# Altium footprint library Mechanical.PcbLib: 5 footprints
Each footprint in its own frame and in the unit in brackets; x right, y up, seen from the top. Pads: shape width x height; smd on the part's side, far side on the other; paste and mask are expansions set on the pad; w line width, h text height; cw(c..) or ccw(c..) is an arc to the next point about the centre after c.
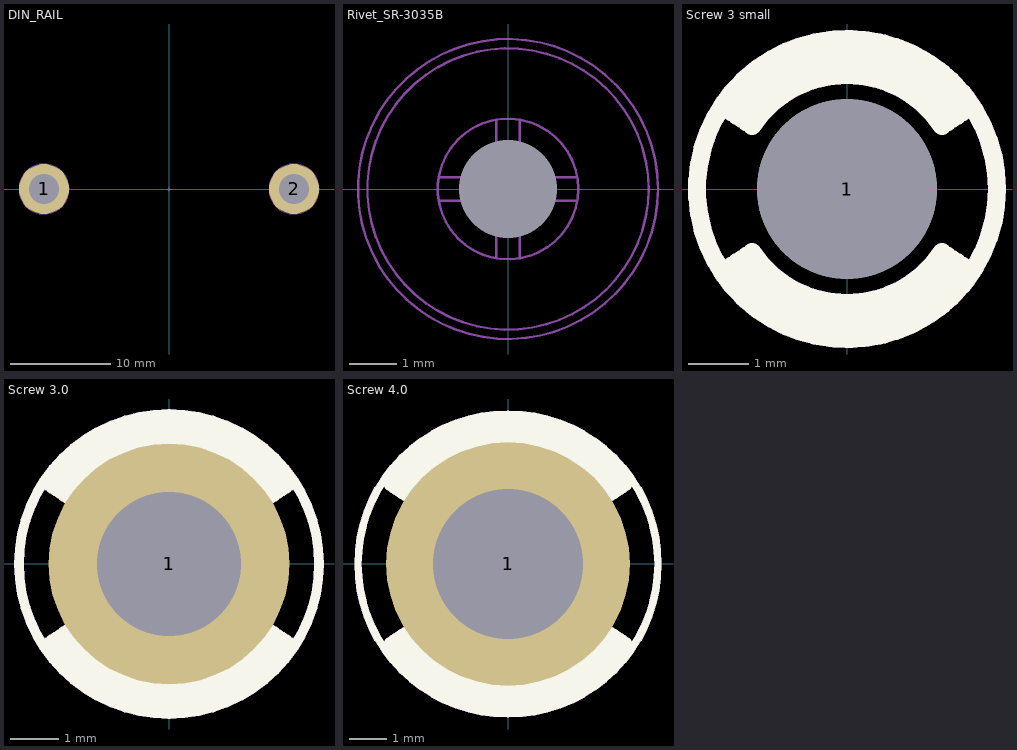
[diagram p0: the footprints below, top view; thin cyan lines are the x and y axes]

## DIN_RAIL [mm]
pads (2):
  round 5 hole 3 mask+0.1: 1(-12.5,0) 2(12.5,0)
Top HCB:
  circle w0.05: c12.5,0 r2.5
  circle w0.05: c-12.5,0 r2.5
  lines w0.05: -0.25,0 0.25,0 ; 0,-0.25 0,0.25
3D body "PCB_C45_DIN_Rail_35mm_Holder.stp": height -0.5, standoff -19.8, extent -21.2,-5 21.4,5

## Rivet_SR-3035B [mm]
height 6.7
pads (1):
  round 0 hole 2.1: 1(0,0)
Top HCB:
  circle w0.05: c0,0 r3.2
  circle w0.05: c0,0 r3
  circle w0.05: c0,0 r1.5
  lines w0.05: -1.475,-0.254 -0.275,-0.252 -0.252,-0.275 -0.254,-1.475 ; -1.475,0.254 -0.275,0.252 -0.252,0.275 -0.254,1.475 ; -0.967,-0.253 ccw(c0,0) -0.253,-0.967 ; -0.967,0.253 cw(c0,0) -0.253,0.967 ; 0.253,-0.967 ccw(c0,0) 0.967,-0.253 ; 0.253,0.967 cw(c0,0) 0.967,0.253 ; 0.254,-1.475 0.252,-0.275 0.275,-0.252 1.475,-0.254 ; 0.254,1.475 0.252,0.275 0.275,0.252 1.475,0.254

## Screw 3 small [mm] "Hole 3mm, outline 5mm"
height 10
pads (1):
  round 3 hole 3 mask+0.1: 1(0,0)
Top Overlay:
  circle w0.3: c0,0 r2.5
  lines w0.3: -1.997,-1.331 ccw(c0,0) 1.997,-1.331 ; -1.997,1.331 cw(c0,0) 1.997,1.331 ; -1.831,-1.22 ccw(c0,0) 1.831,-1.22 ; -1.831,1.22 cw(c0,0) 1.831,1.22 ; -1.747,-1.165 ccw(c0,0) 1.747,-1.165 ; -1.747,1.165 cw(c0,0) 1.747,1.165 ; -1.664,-1.109 ccw(c0,0) 1.664,-1.109 ; -1.664,1.109 cw(c0,0) 1.664,1.109 ; -1.581,-1.054 ccw(c0,0) 1.581,-1.054 ; -1.581,1.054 cw(c0,0) 1.581,1.054 ; -2.08,-1.387 ccw(c0,0) 2.08,-1.387 cw(c0,0) -2.08,-1.387 ; -2.08,1.387 cw(c0,0) 2.08,1.387 ccw(c0,0) -2.08,1.387 ; -1.914,-1.276 ccw(c0,0) 1.914,-1.276 cw(c0,0) -1.914,-1.276 ; -1.914,1.276 cw(c0,0) 1.914,1.276 ccw(c0,0) -1.914,1.276
Top HCB:
  circle w0.3: c0,0 r2.5
  lines w0.3: -1.997,-1.331 ccw(c0,0) 1.997,-1.331 ; -1.997,1.331 cw(c0,0) 1.997,1.331 ; -1.831,-1.22 ccw(c0,0) 1.831,-1.22 ; -1.831,1.22 cw(c0,0) 1.831,1.22 ; -1.747,-1.165 ccw(c0,0) 1.747,-1.165 ; -1.747,1.165 cw(c0,0) 1.747,1.165 ; -1.664,-1.109 ccw(c0,0) 1.664,-1.109 ; -1.664,1.109 cw(c0,0) 1.664,1.109 ; -1.581,-1.054 ccw(c0,0) 1.581,-1.054 ; -1.581,1.054 cw(c0,0) 1.581,1.054 ; -2.08,-1.387 ccw(c0,0) 2.08,-1.387 cw(c0,0) -2.08,-1.387 ; -2.08,1.387 cw(c0,0) 2.08,1.387 ccw(c0,0) -2.08,1.387 ; -1.914,-1.276 ccw(c0,0) 1.914,-1.276 cw(c0,0) -1.914,-1.276 ; -1.914,1.276 cw(c0,0) 1.914,1.276 ccw(c0,0) -1.914,1.276
3D body "Screw-3mmX10mm.step": height 1.73, standoff -10, extent -2.5,-2.5 2.5,2.5

## Screw 3.0 [mm] "Hole 3.0mm"
height 10
pads (1):
  round 5 hole 3 mask+0.1: 1(0,0)
Top Overlay:
  circle w0.2: c0,0 r3.115
  lines w0.3: -2.496,-1.664 ccw(c0,0) 2.496,-1.664 ; -2.496,1.664 cw(c0,0) 2.496,1.664 ; -2.33,-1.553 ccw(c0,0) 2.33,-1.553 ; -2.33,1.553 cw(c0,0) 2.33,1.553 ; -2.247,-1.498 ccw(c0,0) 2.247,-1.498 ; -2.247,1.498 cw(c0,0) 2.247,1.498 ; -2.163,-1.442 ccw(c0,0) 2.163,-1.442 ; -2.163,1.442 cw(c0,0) 2.163,1.442 ; -1.997,-1.331 ccw(c0,0) 1.997,-1.331 ; -1.997,1.331 cw(c0,0) 1.997,1.331 ; -1.831,-1.22 ccw(c0,0) 1.831,-1.22 ; -1.831,1.22 cw(c0,0) 1.831,1.22 ; -1.747,-1.165 ccw(c0,0) 1.747,-1.165 ; -1.747,1.165 cw(c0,0) 1.747,1.165 ; -1.664,-1.109 ccw(c0,0) 1.664,-1.109 ; -1.664,1.109 cw(c0,0) 1.664,1.109 ; -1.581,-1.054 ccw(c0,0) 1.581,-1.054 ; -1.581,1.054 cw(c0,0) 1.581,1.054 ; -2.413,-1.609 ccw(c0,0) 2.413,-1.609 cw(c0,0) -2.413,-1.609 ; -2.413,1.609 cw(c0,0) 2.413,1.609 ccw(c0,0) -2.413,1.609 ; -2.08,-1.387 ccw(c0,0) 2.08,-1.387 cw(c0,0) -2.08,-1.387 ; -2.08,1.387 cw(c0,0) 2.08,1.387 ccw(c0,0) -2.08,1.387 ; -1.914,-1.276 ccw(c0,0) 1.914,-1.276 cw(c0,0) -1.914,-1.276 ; -1.914,1.276 cw(c0,0) 1.914,1.276 ccw(c0,0) -1.914,1.276
Top HCB:
  circle w0.2: c0,0 r3.115
  lines w0.3: -2.496,-1.664 ccw(c0,0) 2.496,-1.664 ; -2.496,1.664 cw(c0,0) 2.496,1.664 ; -2.33,-1.553 ccw(c0,0) 2.33,-1.553 ; -2.33,1.553 cw(c0,0) 2.33,1.553 ; -2.247,-1.498 ccw(c0,0) 2.247,-1.498 ; -2.247,1.498 cw(c0,0) 2.247,1.498 ; -2.163,-1.442 ccw(c0,0) 2.163,-1.442 ; -2.163,1.442 cw(c0,0) 2.163,1.442 ; -1.997,-1.331 ccw(c0,0) 1.997,-1.331 ; -1.997,1.331 cw(c0,0) 1.997,1.331 ; -1.831,-1.22 ccw(c0,0) 1.831,-1.22 ; -1.831,1.22 cw(c0,0) 1.831,1.22 ; -1.747,-1.165 ccw(c0,0) 1.747,-1.165 ; -1.747,1.165 cw(c0,0) 1.747,1.165 ; -1.664,-1.109 ccw(c0,0) 1.664,-1.109 ; -1.664,1.109 cw(c0,0) 1.664,1.109 ; -1.581,-1.054 ccw(c0,0) 1.581,-1.054 ; -1.581,1.054 cw(c0,0) 1.581,1.054 ; -2.413,-1.609 ccw(c0,0) 2.413,-1.609 cw(c0,0) -2.413,-1.609 ; -2.413,1.609 cw(c0,0) 2.413,1.609 ccw(c0,0) -2.413,1.609 ; -2.08,-1.387 ccw(c0,0) 2.08,-1.387 cw(c0,0) -2.08,-1.387 ; -2.08,1.387 cw(c0,0) 2.08,1.387 ccw(c0,0) -2.08,1.387 ; -1.914,-1.276 ccw(c0,0) 1.914,-1.276 cw(c0,0) -1.914,-1.276 ; -1.914,1.276 cw(c0,0) 1.914,1.276 ccw(c0,0) -1.914,1.276
3D body "Screw-3mmX10mm.step": height 1.73, standoff -10, extent -2.5,-2.5 2.5,2.5

## Screw 4.0 [mm] "Hole 4.0mm"
height 10
pads (1):
  round 6.5 hole 4 mask+0.1: 1(0,0)
Top Overlay:
  circle w0.2: c0,0 r4
  lines w0.3: -3.162,-2.108 ccw(c0,0) 3.162,-2.108 ; -3.162,2.108 cw(c0,0) 3.162,2.108 ; -3.137,-2.091 ccw(c0,0) 3.137,-2.091 ; -3.137,2.091 cw(c0,0) 3.137,2.091 ; -3.054,-2.036 ccw(c0,0) 3.053,-2.036 ; -3.054,2.036 cw(c0,0) 3.054,2.036 ; -2.971,-1.98 ccw(c0,0) 2.97,-1.98 ; -2.97,1.98 cw(c0,0) 2.97,1.98 ; -2.887,-1.925 ccw(c0,0) 2.887,-1.925 ; -2.887,1.925 cw(c0,0) 2.887,1.925 ; -2.804,-1.869 ccw(c0,0) 2.804,-1.869 ; -2.804,1.869 cw(c0,0) 2.804,1.869 ; -2.721,-1.814 ccw(c0,0) 2.721,-1.814 ; -2.721,1.814 cw(c0,0) 2.721,1.814 ; -2.638,-1.759 ccw(c0,0) 2.637,-1.759 ; -2.638,1.758 cw(c0,0) 2.638,1.758 ; -2.555,-1.703 ccw(c0,0) 2.554,-1.703 ; -2.554,1.703 cw(c0,0) 2.554,1.703 ; -2.471,-1.648 ccw(c0,0) 2.471,-1.648 ; -2.471,1.647 cw(c0,0) 2.471,1.647 ; -2.305,-1.537 ccw(c0,0) 2.305,-1.537 ; -2.305,1.537 cw(c0,0) 2.305,1.537 ; -2.222,-1.481 ccw(c0,0) 2.221,-1.481 ; -2.222,1.481 cw(c0,0) 2.222,1.481 ; -2.139,-1.426 ccw(c0,0) 2.138,-1.426 ; -2.138,1.426 cw(c0,0) 2.138,1.426 ; -2.055,-1.37 ccw(c0,0) 2.055,-1.37 ; -2.055,1.37 cw(c0,0) 2.055,1.37 ; -2.388,-1.592 ccw(c0,0) 2.388,-1.592 cw(c0,0) -2.388,-1.592 ; -2.388,1.592 cw(c0,0) 2.388,1.592 ccw(c0,0) -2.388,1.592
Top HCB:
  circle w0.2: c0,0 r4
  lines w0.3: -3.162,-2.108 ccw(c0,0) 3.162,-2.108 ; -3.162,2.108 cw(c0,0) 3.162,2.108 ; -3.137,-2.091 ccw(c0,0) 3.137,-2.091 ; -3.137,2.091 cw(c0,0) 3.137,2.091 ; -3.054,-2.036 ccw(c0,0) 3.053,-2.036 ; -3.054,2.036 cw(c0,0) 3.054,2.036 ; -2.971,-1.98 ccw(c0,0) 2.97,-1.98 ; -2.97,1.98 cw(c0,0) 2.97,1.98 ; -2.887,-1.925 ccw(c0,0) 2.887,-1.925 ; -2.887,1.925 cw(c0,0) 2.887,1.925 ; -2.804,-1.869 ccw(c0,0) 2.804,-1.869 ; -2.804,1.869 cw(c0,0) 2.804,1.869 ; -2.721,-1.814 ccw(c0,0) 2.721,-1.814 ; -2.721,1.814 cw(c0,0) 2.721,1.814 ; -2.638,-1.759 ccw(c0,0) 2.637,-1.759 ; -2.638,1.758 cw(c0,0) 2.638,1.758 ; -2.555,-1.703 ccw(c0,0) 2.554,-1.703 ; -2.554,1.703 cw(c0,0) 2.554,1.703 ; -2.471,-1.648 ccw(c0,0) 2.471,-1.648 ; -2.471,1.647 cw(c0,0) 2.471,1.647 ; -2.305,-1.537 ccw(c0,0) 2.305,-1.537 ; -2.305,1.537 cw(c0,0) 2.305,1.537 ; -2.222,-1.481 ccw(c0,0) 2.221,-1.481 ; -2.222,1.481 cw(c0,0) 2.222,1.481 ; -2.139,-1.426 ccw(c0,0) 2.138,-1.426 ; -2.138,1.426 cw(c0,0) 2.138,1.426 ; -2.055,-1.37 ccw(c0,0) 2.055,-1.37 ; -2.055,1.37 cw(c0,0) 2.055,1.37 ; -2.388,-1.592 ccw(c0,0) 2.388,-1.592 cw(c0,0) -2.388,-1.592 ; -2.388,1.592 cw(c0,0) 2.388,1.592 ccw(c0,0) -2.388,1.592
3D body "Screw-3mmX10mm.step": height 1.73, standoff -10, extent -2.5,-2.5 2.5,2.5